# Altium footprint library PcbLib1.PcbLib: 19 footprints (part 1 of 2)
Each footprint in its own frame and in the unit in brackets; x right, y up, seen from the top. Pads: shape width x height; smd on the part's side, far side on the other; paste and mask are expansions set on the pad; w line width, h text height; cw(c..) or ccw(c..) is an arc to the next point about the centre after c.
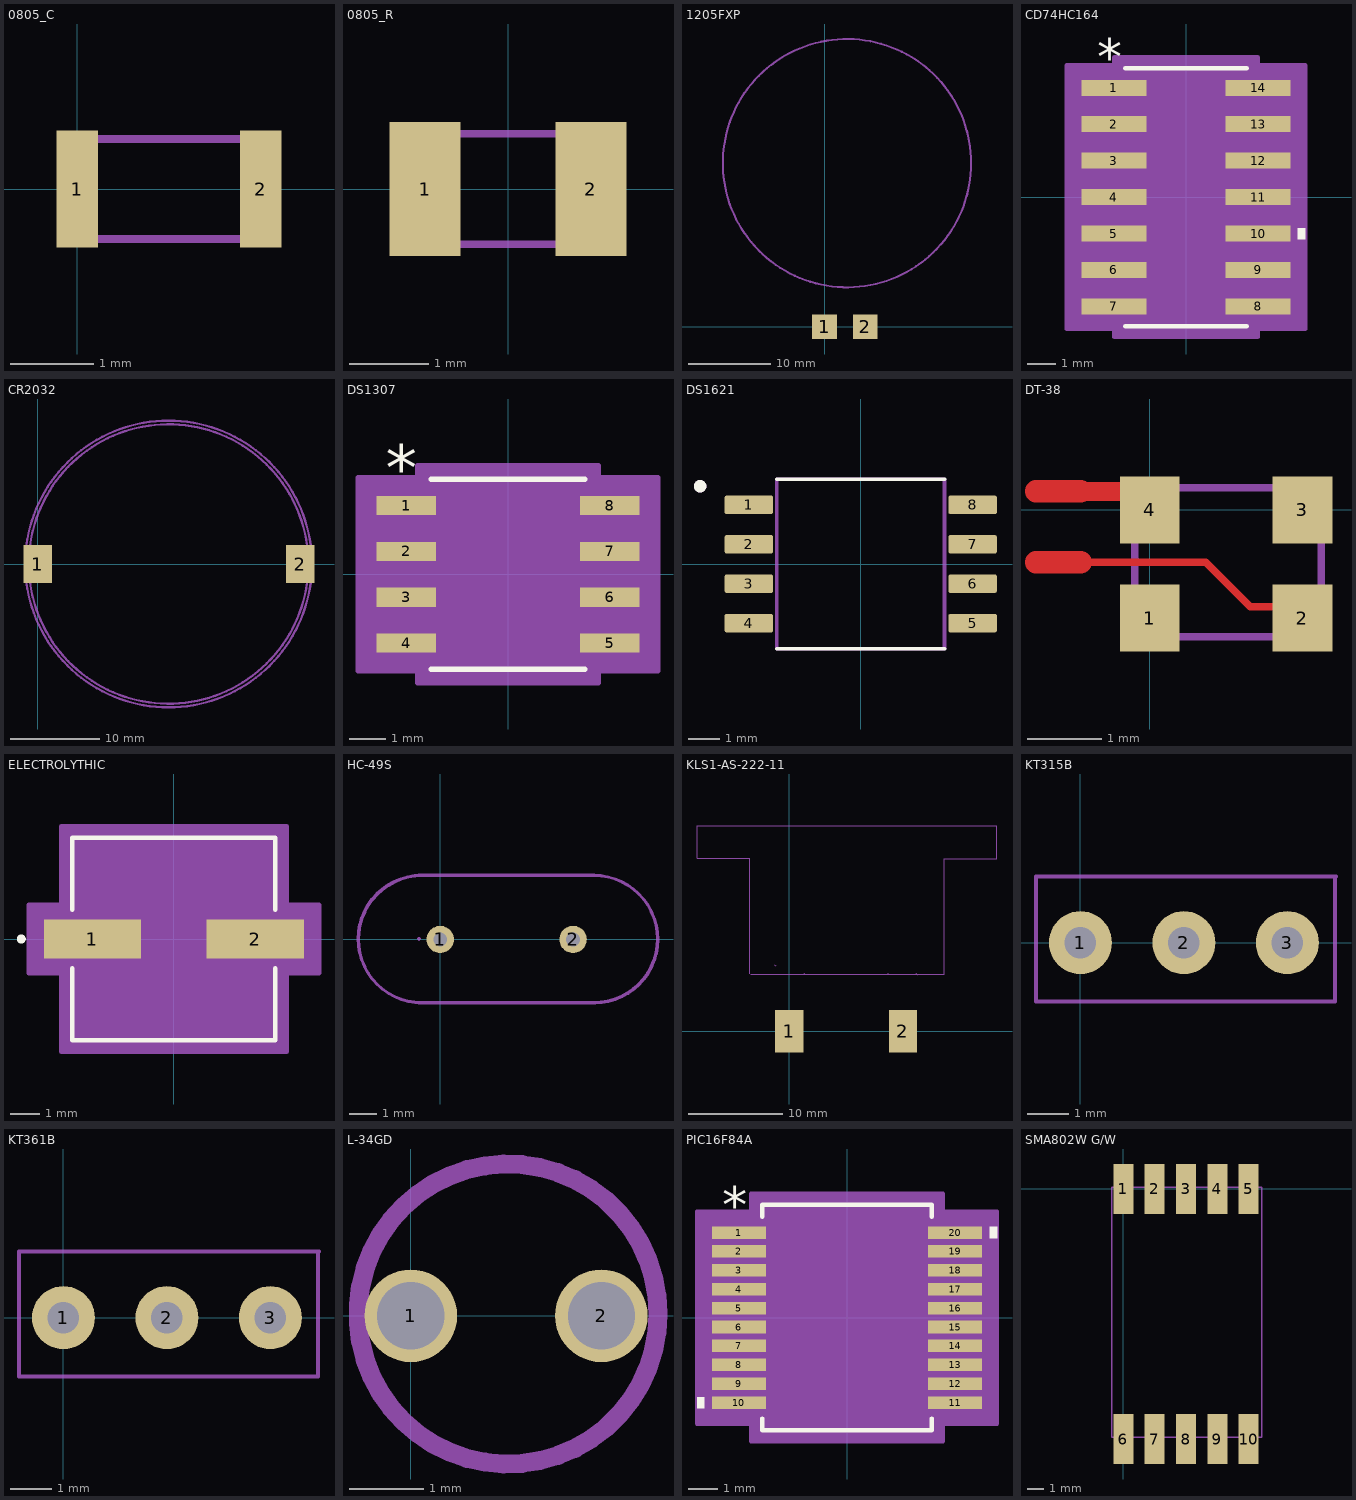
[diagram p0: the footprints below, top view; thin cyan lines are the x and y axes]

## 0805_C [mm]
pads (2):
  rect 0.5x1.4 smd: 1(0,0) 2(2.2,0)
Top Assembly:
  lines w0.1: 0,-0.6 2.2,-0.6 2.2,0.6 0,0.6 0,-0.6
3D body: height 0.4, standoff 0, extent 0,-0.6 2.2,0.6

## 0805_R [mm]
pads (2):
  rect 0.9x1.7 smd: 1(-1.05,0) 2(1.05,0)
Top Assembly:
  lines w0.1: -1.05,-0.7 -1.05,0.7 1.05,0.7 1.05,-0.7 -1.05,-0.7
3D body: height 0.4, standoff 0, extent -1.05,-0.7 1.05,0.7

## 1205FXP [mm]
pads (2):
  rect 3x3 smd: 1(0,0) 2(5,0)
Top Assembly:
  circle w0.254: c2.75,20 r15.179
3D body: height 20, standoff 0, extent -12.45,4.875 17.975,35.2

## CD74HC164 [mm]
pads (14):
  rect 2.27x0.558 smd paste+0 mask+0: 1(-2.514,3.81) 2(-2.514,2.54) 3(-2.514,1.27) 4(-2.514,0) 5(-2.514,-1.27) 6(-2.514,-2.54) 7(-2.514,-3.81) 8(2.514,-3.81) 9(2.514,-2.54) 10(2.514,-1.27) 11(2.514,0) 12(2.514,1.27) 13(2.514,2.54) 14(2.514,3.81)
Top Overlay:
  region: 3.903,-1.079 4.157,-1.079 4.157,-1.46 3.903,-1.46
  lines w0.152: -2.121,-4.496 2.121,-4.496 ; -2.121,4.496 2.121,4.496
  text "*" at -3.085,4.241 h1.27
Top Assembly:
  lines w0: -0.305,4.369 ccw(c0,4.369) 0.305,4.369
  lines w0.025: -3.099,-4.064 -1.994,-4.064 -1.994,-3.556 -3.099,-3.556 -3.099,-4.064 ; -3.099,-2.794 -1.994,-2.794 -1.994,-2.286 -3.099,-2.286 -3.099,-2.794 ; -3.099,-1.524 -1.994,-1.524 -1.994,-1.016 -3.099,-1.016 -3.099,-1.524 ; -3.099,-0.254 -1.994,-0.254 -1.994,0.254 -3.099,0.254 -3.099,-0.254 ; -3.099,1.016 -1.994,1.016 -1.994,1.524 -3.099,1.524 -3.099,1.016 ; -3.099,2.286 -1.994,2.286 -1.994,2.794 -3.099,2.794 -3.099,2.286 ; -3.099,3.556 -1.994,3.556 -1.994,4.064 -3.099,4.064 -3.099,3.556 ; -1.994,-4.369 1.994,-4.369 1.994,4.369 -1.994,4.369 -1.994,-4.369 ; 1.994,-4.064 3.099,-4.064 3.099,-3.556 1.994,-3.556 1.994,-4.064 ; 1.994,-2.794 3.099,-2.794 3.099,-2.286 1.994,-2.286 1.994,-2.794 ; 1.994,-1.524 3.099,-1.524 3.099,-1.016 1.994,-1.016 1.994,-1.524 ; 1.994,-0.254 3.099,-0.254 3.099,0.254 1.994,0.254 1.994,-0.254 ; 1.994,1.016 3.099,1.016 3.099,1.524 1.994,1.524 1.994,1.016 ; 1.994,2.286 3.099,2.286 3.099,2.794 1.994,2.794 1.994,2.286 ; 1.994,3.556 3.099,3.556 3.099,4.064 1.994,4.064 1.994,3.556
  text "*" at -1.93,3.023 h1.27
Mechanical 15:
  region: -2.502,-4.597 -4.157,-4.597 -4.157,4.597 -2.502,4.597 -2.502,4.877 2.502,4.877 2.502,4.597 4.157,4.597 4.157,-4.597 2.502,-4.597 2.502,-4.877 -2.502,-4.877
  lines w0.152: -4.157,-4.597 -2.502,-4.597 -2.502,-4.877 2.502,-4.877 2.502,-4.597 4.157,-4.597 4.157,4.597 2.502,4.597 2.502,4.877 -2.502,4.877 -2.502,4.597 -4.157,4.597 -4.157,-4.597
3D body: height 0.25, standoff 0, extent 0,0 0.254,0.254
3D body "D0014A.stp": height 1.75, standoff 0, extent -3.013,-4.325 3.013,4.325

## CR2032 [mm]
pads (2):
  rect 3.2x4.2 smd: 1(0,0) 2(29.3,0)
Top Assembly:
  circle w0.254: c14.6,0 r16.008
Top 3D Body:
  circle w0.254: c14.6,0 r15.605
3D body: height 5, standoff 0, extent -1.002,-15.6 30.203,15.6

## DS1307 [mm]
pads (8):
  rect 1.655x0.533 smd paste+0 mask+0: 1(-2.821,1.905) 2(-2.821,0.635) 3(-2.821,-0.635) 4(-2.821,-1.905) 5(2.821,-1.905) 6(2.821,-0.635) 7(2.821,0.635) 8(2.821,1.905)
Top Overlay:
  lines w0.152: -2.121,-2.629 2.121,-2.629 ; -2.121,2.629 2.121,2.629
  text "*" at -3.393,2.311 h1.27
Top Assembly:
  lines w0: -0.305,2.502 ccw(c0,2.502) 0.305,2.502
  lines w0.025: -3.099,-2.146 -1.994,-2.146 -1.994,-1.664 -3.099,-1.664 -3.099,-2.146 ; -3.099,-0.876 -1.994,-0.876 -1.994,-0.394 -3.099,-0.394 -3.099,-0.876 ; -3.099,0.394 -1.994,0.394 -1.994,0.876 -3.099,0.876 -3.099,0.394 ; -3.099,1.664 -1.994,1.664 -1.994,2.146 -3.099,2.146 -3.099,1.664 ; -1.994,-2.502 1.994,-2.502 1.994,2.502 -1.994,2.502 -1.994,-2.502 ; 1.994,-2.146 3.099,-2.146 3.099,-1.664 1.994,-1.664 1.994,-2.146 ; 1.994,-0.876 3.099,-0.876 3.099,-0.394 1.994,-0.394 1.994,-0.876 ; 1.994,0.394 3.099,0.394 3.099,0.876 1.994,0.876 1.994,0.394 ; 1.994,1.664 3.099,1.664 3.099,2.146 1.994,2.146 1.994,1.664
  text "*" at -1.93,1.156 h1.27
Mechanical 15:
  region: -2.502,-2.679 -4.157,-2.679 -4.157,2.679 -2.502,2.679 -2.502,3.01 2.502,3.01 2.502,2.679 4.157,2.679 4.157,-2.679 2.502,-2.679 2.502,-3.01 -2.502,-3.01
  lines w0.152: -4.157,-2.679 -2.502,-2.679 -2.502,-3.01 2.502,-3.01 2.502,-2.679 4.157,-2.679 4.157,2.679 2.502,2.679 2.502,3.01 -2.502,3.01 -2.502,2.679 -4.157,2.679 -4.157,-2.679
3D body: height 0.25, standoff 0, extent 0,0 0.254,0.254
3D body "21-0041B_8_MXM.step": height 1.76, standoff 0, extent -3.099,-2.502 3.099,2.502

## DS1621 [mm]
pads (8):
  rrect25% 1.57x0.6 smd: 1(-3.605,1.905) 2(-3.605,0.635) 3(-3.605,-0.635) 4(-3.605,-1.905) 5(3.605,-1.905) 6(3.605,-0.635) 7(3.605,0.635) 8(3.605,1.905)
Top Overlay:
  circle w0.2: c-5.175,2.505 r0.1
  lines w0.127: -2.705,-2.73 2.705,-2.73 ; -2.705,2.73 2.705,2.73
Top Assembly:
  circle w0.2: c-5.175,2.505 r0.1
  lines w0.127: -2.705,-2.73 -2.705,2.73 2.705,2.73 2.705,-2.73 -2.705,-2.73
3D body "21-0041B_8_MXM.step": height 1.76, standoff 0, extent -3.099,-2.502 3.099,2.502

## DT-38 [mm]
pads (4):
  rect 0.8x0.9 smd: 1(0,-1.45) 2(2.05,-1.45) 3(2.05,0) 4(0,0)
Top Layer:
  lines w0.1: -0.925,-0.7 0.75,-0.7 1.35,-1.3 1.9,-1.3
  lines w0.254: -0.925,0.25 -0.225,0.25
  lines w0.3: -1.525,-0.7 -0.925,-0.7 ; -1.525,0.25 -0.925,0.25
Top Assembly:
  lines w0.1: -0.2,-1.7 2.3,-1.7 2.3,0.3 -0.2,0.3 -0.2,-1.7
3D body: height 0.8, standoff 0, extent -0.2,-1.7 2.3,0.3

## ELECTROLYTHIC [mm]
pads (2):
  rect 3.291x1.313 smd paste+0 mask+0: 1(-2.75,0) 2(2.75,0)
Top Overlay:
  circle w0.152: c-5.158,0 r0.076
  lines w0.152: -3.429,-0.989 -3.429,-3.429 3.429,-3.429 3.429,-0.989 ; -3.429,0.989 -3.429,3.429 3.429,3.429 3.429,0.989
Top Assembly:
  circle w0: c-2.794,0 r0.076
Mechanical 13:
  lines w0.025: -3.302,-1.651 -1.651,-3.302 ; -3.302,1.651 -1.651,3.302 ; -3.302,-3.302 3.302,-3.302 3.302,3.302 -3.302,3.302 -3.302,-3.302
Mechanical 15:
  region: -3.81,-1.164 -4.904,-1.164 -4.904,1.164 -3.81,1.164 -3.81,3.81 3.81,3.81 3.81,1.164 4.904,1.164 4.904,-1.164 3.81,-1.164 3.81,-3.81 -3.81,-3.81
  lines w0.152: -4.904,-1.164 -4.904,1.164 -3.81,1.164 -3.81,3.81 3.81,3.81 3.81,1.164 4.904,1.164 4.904,-1.164 3.81,-1.164 3.81,-3.81 -3.81,-3.81 -3.81,-1.164 -4.904,-1.164
3D body: height 0.25, standoff 0, extent 0,0 0.254,0.254
3D body "CAP_UCD_6P3X7P7_NCH.step": height 8.05, standoff 0, extent -3.696,-3.302 3.696,3.302

## HC-49S [mm]
pads (2):
  round 1 hole 0.5: 1(0,0) 2(4.85,0)
Top Assembly:
  lines w0.1: -0.8,-2.3 5.623,-2.3 ; -0.8,0.025 -0.777,0.048 ; -0.777,2.36 5.623,2.349 ; -0.775,-2.325 5.648,-2.325 ; -0.775,0 -0.752,0.023 ; -0.752,2.335 5.648,2.324 ; -0.675,-2.3 cw(c-0.675,0.025) -0.675,2.35 ; -0.65,-2.325 cw(c-0.65,0) -0.65,2.325 ; 5.6,-2.3 ccw(c5.6,0.025) 5.6,2.35 ; 5.625,-2.325 ccw(c5.625,0) 5.625,2.325
3D body: height 13.46, standoff 0, extent 3.3,-2.3 7.95,2.35
3D body: height 13.46, standoff 0, extent -3.05,-2.3 1.6,2.35
3D body: height 13.46, standoff 0, extent 0.325,-2.3 4.25,2.35
3D body: height 13.46, standoff 0, extent -0.95,-2.3 5.725,2.35

## KLS1-AS-222-11 [mm]
pads (2):
  rect 3x4.5 smd: 1(0,0) 2(12.05,0)
Top Assembly:
  lines w0.1: -4.15,6.05 -4.15,18.3 -9.75,18.3 -9.75,21.75 21.95,21.75 ; -4.075,6 16.4,6 16.4,18.25 22,18.25 22,21.7
Top 3D Body:
  lines w0.1: -1.55,7.025 -1.425,6.9 ; 1.55,6.1 1.6,6.05 ; 10.475,6.075 10.5,6.1 ; 13.425,6.1 13.55,5.975
3D body: height 7, standoff 0, extent -9.975,6.05 22.1,21.775
3D body: height 4, standoff 3, extent -1.65,2.325 1.6,6.1
3D body: height 4, standoff 3, extent 10.425,2.425 13.675,6.2

## KT315B [mil]
pads (3):
  round 60 hole 30: 1(0,0) 2(98.43,0) 3(196.85,0)
Top Assembly:
  lines w3.94: 241.14,-56.1 -42.32,-56.1 -42.32,62.99 243.11,62.99 ; 242.13,-56.1 242.13,62.99
3D body: height 196.85, standoff 0, extent -42.32,-56.1 242.13,62.99

## KT361B [mil]
pads (3):
  round 60 hole 30: 1(0,0) 2(98.43,0) 3(196.85,0)
Top Assembly:
  lines w3.94: 241.14,-56.1 -42.32,-56.1 -42.32,62.99 243.11,62.99 ; 242.13,-56.1 242.13,62.99
3D body: height 196.85, standoff 0, extent -42.32,-56.1 242.13,62.99

## L-34GD [mm]
pads (2):
  round 1.24 hole 0.9: 1(0,0) 2(2.55,0)
Top Assembly:
  circle w0.254: c1.3,0.025 r2.008
3D body: height 5.3, standoff 0, extent -0.7,-1.95 3.35,2.05

## PIC16F84A [mm]
pads (20):
  rect 1.858x0.431 smd paste+0 mask+0: 1(-3.723,2.925) 2(-3.723,2.275) 3(-3.723,1.625) 4(-3.723,0.975) 5(-3.723,0.325) 6(-3.723,-0.325) 7(-3.723,-0.975) 8(-3.723,-1.625) 9(-3.723,-2.275) 10(-3.723,-2.925) 11(3.723,-2.925) 12(3.723,-2.275) 13(3.723,-1.625) 14(3.723,-0.975) 15(3.723,-0.325) 16(3.723,0.325) 17(3.723,0.975) 18(3.723,1.625) 19(3.723,2.275) 20(3.723,2.925)
Top Overlay:
  region: -4.906,-2.734 -5.16,-2.734 -5.16,-3.115 -4.906,-3.115
  region: 4.906,3.115 5.16,3.115 5.16,2.734 4.906,2.734
  lines w0.152: -2.921,-3.473 -2.921,-3.873 2.921,-3.873 2.921,-3.473 ; -2.921,3.473 -2.921,3.873 2.921,3.873 2.921,3.473
  text "*" at -4.295,3.229 h1.27
Top Assembly:
  lines w0: -0.305,3.746 ccw(c0,3.746) 0.305,3.746
  lines w0.025: -4.102,-3.115 -4.102,-2.734 -2.794,-2.734 -2.794,-3.115 -4.102,-3.115 ; -4.102,-2.465 -4.102,-2.084 -2.794,-2.084 -2.794,-2.465 -4.102,-2.465 ; -4.102,-1.815 -4.102,-1.434 -2.794,-1.434 -2.794,-1.815 -4.102,-1.815 ; -4.102,-1.165 -4.102,-0.784 -2.794,-0.784 -2.794,-1.165 -4.102,-1.165 ; -4.102,-0.515 -4.102,-0.134 -2.794,-0.134 -2.794,-0.515 -4.102,-0.515 ; -4.102,0.135 -4.102,0.516 -2.794,0.516 -2.794,0.135 -4.102,0.135 ; -4.102,0.784 -4.102,1.165 -2.794,1.165 -2.794,0.784 -4.102,0.784 ; -4.102,1.435 -4.102,1.816 -2.794,1.816 -2.794,1.435 -4.102,1.435 ; -4.102,2.084 -4.102,2.465 -2.794,2.465 -2.794,2.084 -4.102,2.084 ; -4.102,2.735 -4.102,3.116 -2.794,3.116 -2.794,2.735 -4.102,2.735 ; -2.794,-3.746 -2.794,3.746 2.794,3.746 2.794,-3.746 -2.794,-3.746 ; 2.794,-3.116 2.794,-2.735 4.102,-2.735 4.102,-3.116 2.794,-3.116 ; 2.794,-2.466 2.794,-2.085 4.102,-2.085 4.102,-2.466 2.794,-2.466 ; 2.794,-1.816 2.794,-1.435 4.102,-1.435 4.102,-1.816 2.794,-1.816 ; 2.794,-1.166 2.794,-0.785 4.102,-0.785 4.102,-1.166 2.794,-1.166 ; 2.794,-0.516 2.794,-0.135 4.102,-0.135 4.102,-0.516 2.794,-0.516 ; 2.794,0.134 2.794,0.515 4.102,0.515 4.102,0.134 2.794,0.134 ; 2.794,0.784 2.794,1.165 4.102,1.165 4.102,0.784 2.794,0.784 ; 2.794,1.434 2.794,1.815 4.102,1.815 4.102,1.434 2.794,1.434 ; 2.794,2.084 2.794,2.465 4.102,2.465 4.102,2.084 2.794,2.084 ; 2.794,2.734 2.794,3.115 4.102,3.115 4.102,2.734 2.794,2.734
  text "*" at -2.73,2.4 h1.27
Mechanical 15:
  region: -3.302,-3.648 -5.16,-3.648 -5.16,3.648 -3.302,3.648 -3.302,4.255 3.302,4.255 3.302,3.648 5.16,3.648 5.16,-3.648 3.302,-3.648 3.302,-4.255 -3.302,-4.255
  lines w0.152: -5.16,-3.648 -5.16,3.648 -3.302,3.648 -3.302,4.255 3.302,4.255 3.302,3.648 5.16,3.648 5.16,-3.648 3.302,-3.648 3.302,-4.255 -3.302,-4.255 -3.302,-3.648 -5.16,-3.648
3D body: height 0.25, standoff 0, extent 0,0 0.254,0.254
3D body "SSOP20_MC_MCH.step": height 2.01, standoff 0, extent -4.177,-3.746 4.027,3.746

## SMA802W G/W [mm]
pads (10):
  rect 1.2x3 smd: 1(0,0) 2(1.88,0) 3(3.76,0) 4(5.64,0) 5(7.52,0) 6(0,-15) 7(1.88,-15) 8(3.76,-15) 9(5.64,-15) 10(7.52,-15)
Top Assembly:
  lines w0.1: -0.7,-14.9 -0.7,0.1 8.3,0.1 8.3,-14.9 -0.7,-14.9
3D body "XZFxx10x.step": height 3.75, standoff -0.05, extent -0.75,-14.8 8.35,0.2